# EAGLE library part ADS1015 (library Adafruit_ADS1015_12Bit_I2C_ADC)
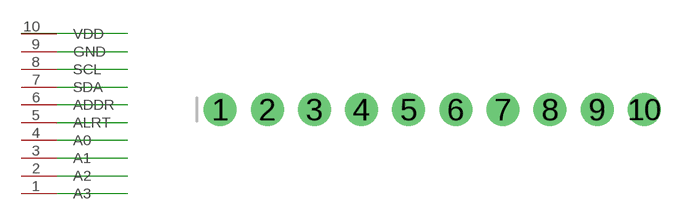
[diagram p0: symbol with the pads of MICROBUILDER_1X10_ROUND70; footprint MICROBUILDER_1X10_ROUND70]

Designator prefix -

## ADS1015  [MICROBUILDER_1X10_ROUND70]
1  A3
2  A2
3  A1
4  A0
5  ALRT
6  ADDR
7  SDA
8  SCL
9  GND
10  VDD

## Footprint MICROBUILDER_1X10_ROUND70 (pad centres in mm)
drill 1 pad 1.778: 1 -11.43,0; 2 -8.89,0; 3 -6.35,0; 4 -3.81,0; 5 -1.27,0; 6 1.27,0; 7 3.81,0; 8 6.35,0; 9 8.89,0; 10 11.43,0